# EAGLE library part DRV8833 (library IC & Transistor)
DUAL H-BRIDGE MOTOR DRIVER,HTSSOP -16
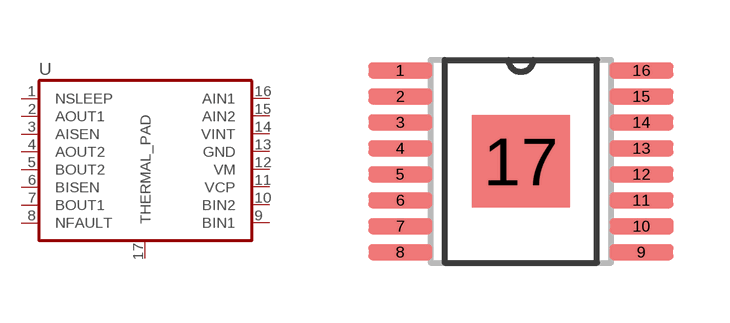
[diagram p13: symbol with the pads of R-PDSO-G16; footprint R-PDSO-G16]

Designator prefix U

## DRV8833 (CYTRON-PC: SMD-IC-DRV8833; DESC: Dual H-Bridge Motor Driver; MPN: DRV8833)  [R-PDSO-G16]
1  NSLEEP
2  AOUT1
3  AISEN
4  AOUT2
5  BOUT2
6  BISEN
7  BOUT1
8  NFAULT
9  BIN1
10  BIN2
11  VCP
12  VM
13  GND
14  VINT
15  AIN2
16  AIN1
17  THERMAL_PAD

## Footprint R-PDSO-G16 (pad centres in mm)
PowerPAD Small Plastic Outline, PWP (R-PDSO-G16) Product Code: Size: 5.2 x 7.8 mm
smd 1.6 x 0.4: 1 -3.019,2.275; 2 -3.019,1.625; 3 -3.019,0.975; 4 -3.019,0.325; 5 -3.019,-0.325; 6 -3.019,-0.975; 7 -3.019,-1.625; 8 -3.015,-2.275; 9 3.015,-2.275; 10 3.019,-1.625; 11 3.015,-0.975; 12 3.015,-0.325; 13 3.015,0.325; 14 3.015,0.975; 15 3.015,1.625; 16 3.015,2.275
smd 2.46 x 2.31: 17 0,0